# Altium schematic symbol library STM32F103C6T6.SchLib: 1 symbol
Pins are listed as number, name and electrical type; pins without a type are passive.

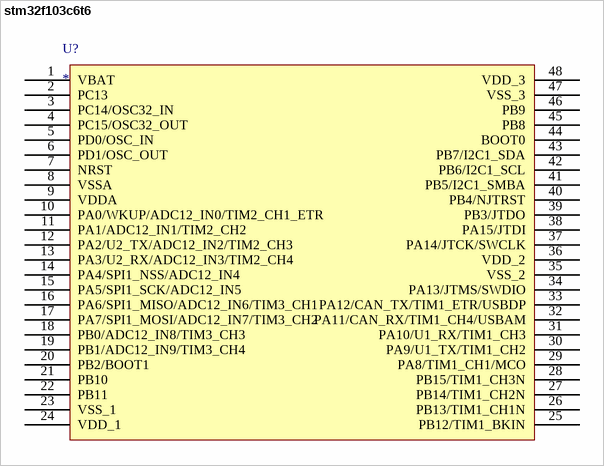
[diagram p0: symbol stm32f103c6t6]

## stm32f103c6t6
designator U?
footprint STM32F103C6T6
pins: 1 VBAT, 2 PC13, 3 PC14/OSC32_IN, 4 PC15/OSC32_OUT, 5 PD0/OSC_IN, 6 PD1/OSC_OUT, 7 NRST, 8 VSSA, 9 VDDA, 10 PA0/WKUP/ADC12_IN0/TIM2_CH1_ETR, 11 PA1/ADC12_IN1/TIM2_CH2, 12 PA2/U2_TX/ADC12_IN2/TIM2_CH3, 13 PA3/U2_RX/ADC12_IN3/TIM2_CH4, 14 PA4/SPI1_NSS/ADC12_IN4, 15 PA5/SPI1_SCK/ADC12_IN5, 16 PA6/SPI1_MISO/ADC12_IN6/TIM3_CH1, 17 PA7/SPI1_MOSI/ADC12_IN7/TIM3_CH2, 18 PB0/ADC12_IN8/TIM3_CH3, 19 PB1/ADC12_IN9/TIM3_CH4, 20 PB2/BOOT1, 21 PB10, 22 PB11, 23 VSS_1, 24 VDD_1, 25 PB12/TIM1_BKIN, 26 PB13/TIM1_CH1N, 27 PB14/TIM1_CH2N, 28 PB15/TIM1_CH3N, 29 PA8/TIM1_CH1/MCO, 30 PA9/U1_TX/TIM1_CH2, 31 PA10/U1_RX/TIM1_CH3, 32 PA11/CAN_RX/TIM1_CH4/USBAM, 33 PA12/CAN_TX/TIM1_ETR/USBDP, 34 PA13/JTMS/SWDIO, 35 VSS_2, 36 VDD_2, 37 PA14/JTCK/SWCLK, 38 PA15/JTDI, 39 PB3/JTDO, 40 PB4/NJTRST, 41 PB5/I2C1_SMBA, 42 PB6/I2C1_SCL, 43 PB7/I2C1_SDA, 44 BOOT0, 45 PB8, 46 PB9, 47 VSS_3, 48 VDD_3